# EAGLE library part USB0004 (library MyLib)
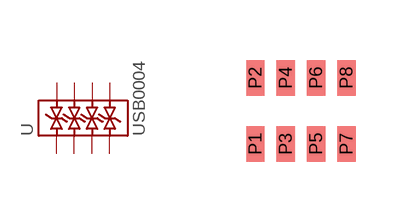
[diagram p5: symbol with the pads of USB0004; footprint USB0004]

Designator prefix -

## USB0004  [USB0004]
P1  P1  pas
P2  P2  pas
P3  P3  pas
P4  P4  pas
P5  P5  pas
P6  P6  pas
P7  P7  pas
P8  P8  pas

## Footprint USB0004 (pad centres in mm)
8-lead DFN for USB0004 made by AVX
smd 0.46 x 0.89: P1 -1.14,-0.825; P2 -1.14,0.825; P3 -0.38,-0.825; P4 -0.38,0.825; P5 0.38,-0.825; P6 0.38,0.825; P7 1.14,-0.825; P8 1.14,0.825